# EAGLE library part INGENUITYMICRO_WS2803 (library Level)
WS2803 18-Channel Constant Current LED Driver with Programmable PWM Outputs Manufactured by Worldsemi
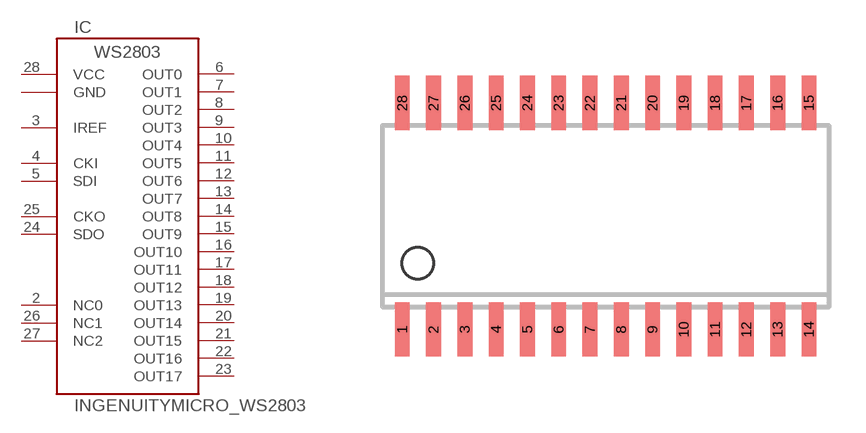
[diagram p1: symbol with the pads of INGENUITYMICRO_SO28W; footprint INGENUITYMICRO_SO28W]

Designator prefix IC

## INGENUITYMICRO_WS2803  [INGENUITYMICRO_SO28W]
1  GND  pwr
2  NC0  nc
3  IREF  in
4  CKI  in
5  SDI  in
6  OUT0  out
7  OUT1  out
8  OUT2  out
9  OUT3  out
10  OUT4  out
11  OUT5  out
12  OUT6  out
13  OUT7  out
14  OUT8  out
15  OUT9  out
16  OUT10  out
17  OUT11  out
18  OUT12  out
19  OUT13  out
20  OUT14  out
21  OUT15  out
22  OUT16  out
23  OUT17  out
24  SDO  out
25  CKO  out
26  NC1  nc
27  NC2  nc
28  VCC  pwr

## Footprint INGENUITYMICRO_SO28W (pad centres in mm)
SMALL OUTLINE INTEGRATED CIRCUIT wide body 7.5 mm/JEDEC MO-119AB
smd 0.6 x 2.2: 1 -8.255,-4.6; 2 -6.985,-4.6; 3 -5.715,-4.6; 4 -4.445,-4.6; 5 -3.175,-4.6; 6 -1.905,-4.6; 7 -0.635,-4.6; 8 0.635,-4.6; 9 1.905,-4.6; 10 3.175,-4.6; 11 4.445,-4.6; 12 5.715,-4.6; 13 6.985,-4.6; 14 8.255,-4.6; 15 8.255,4.6; 16 6.985,4.6; 17 5.715,4.6; 18 4.445,4.6; 19 3.175,4.6; 20 1.905,4.6; 21 0.635,4.6; 22 -0.635,4.6; 23 -1.905,4.6; 24 -3.175,4.6; 25 -4.445,4.6; 26 -5.715,4.6; 27 -6.985,4.6; 28 -8.255,4.6